# Altium footprint library PcbLib1.PcbLib: 3 footprints
Each footprint in its own frame and in the unit in brackets; x right, y up, seen from the top. Pads: shape width x height; smd on the part's side, far side on the other; paste and mask are expansions set on the pad; w line width, h text height; cw(c..) or ccw(c..) is an arc to the next point about the centre after c.
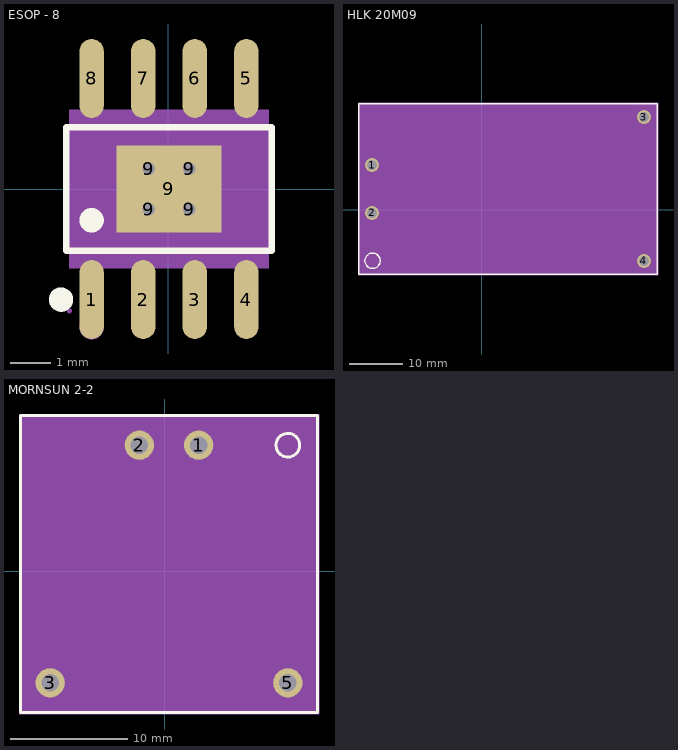
[diagram p0: the footprints below, top view; thin cyan lines are the x and y axes]

## ESOP - 8 [mm]
pads (13):
  oval 0.602x1.941 smd: 1(-1.891,-2.713) 2(-0.621,-2.713) 3(0.649,-2.713) 4(1.919,-2.713) 5(1.919,2.728) 6(0.649,2.728) 7(-0.621,2.728) 8(-1.891,2.728)
  round 0.6 hole 0.3: 9(-0.485,-0.492) 9(-0.485,0.508) 9(0.515,-0.492) 9(0.515,0.508)
  rect 2.595x2.15 smd: 9(0.014,0.008)
Top Overlay:
  circle w0.3: c-2.644,-2.713 r0.15
  circle w0.3: c-1.891,-0.761 r0.15
  lines w0.152: -2.512,-1.513 2.541,-1.513 2.541,1.529 -2.512,1.529 -2.512,-1.513
Mechanical 4:
  region: -2.436,-1.942 -2.436,1.958 2.464,1.958 2.464,-1.942
Mechanical 5:
  region: -1.283,-1.067 -1.283,1.083 1.312,1.083 1.312,-1.067
  pour cut-out: 1.704,2.368 1.704,1.948 2.134,1.948 2.134,2.368
  region: 1.704,3.008 1.704,2.358 2.134,2.358 2.134,3.008
  pour cut-out: 0.434,2.368 0.434,1.948 0.864,1.948 0.864,2.368
  region: 0.434,3.008 0.434,2.358 0.864,2.358 0.864,3.008
  pour cut-out: -0.836,2.368 -0.836,1.948 -0.406,1.948 -0.406,2.368
  region: -0.836,3.008 -0.836,2.358 -0.406,2.358 -0.406,3.008
  pour cut-out: -2.106,2.368 -2.106,1.948 -1.676,1.948 -1.676,2.368
  region: -2.106,3.008 -2.106,2.358 -1.676,2.358 -1.676,3.008
  pour cut-out: 1.704,-2.352 1.704,-1.932 2.134,-1.932 2.134,-2.352
  region: 1.704,-2.992 1.704,-2.342 2.134,-2.342 2.134,-2.992
  pour cut-out: 0.434,-2.352 0.434,-1.932 0.864,-1.932 0.864,-2.352
  region: 0.434,-2.992 0.434,-2.342 0.864,-2.342 0.864,-2.992
  pour cut-out: -0.836,-2.352 -0.836,-1.932 -0.406,-1.932 -0.406,-2.352
  region: -0.836,-2.992 -0.836,-2.342 -0.406,-2.342 -0.406,-2.992
  pour cut-out: -2.106,-2.352 -2.106,-1.932 -1.676,-1.932 -1.676,-2.352
  region: -2.106,-2.992 -2.106,-2.342 -1.676,-2.342 -1.676,-2.992
Mechanical 6:
  circle w0.06: c-2.436,-2.992 r0.03
Mechanical 15:
  circle w0.3: c-1.891,-3.392 r0.15

## HLK 20M09 [mm]
pads (4):
  round 2.6 hole 1.8: 1(-20.614,8.435) 2(-20.614,-0.565) 3(30.386,17.435) 4(30.386,-9.565)
Top Overlay:
  circle w0.254: c-20.514,-9.527 r1.437
  lines w0.254: -23.114,-12.065 32.886,-12.065 32.886,19.935 -23.114,19.935 -23.114,-12.065
Mechanical 4:
  region: -23.241,20.062 33.013,20.062 33.013,-12.192 -23.241,-12.192
Mechanical 5:
  region: -21.914,9.735 -19.314,9.735 -19.314,7.135 -21.914,7.135
  region: -21.914,0.735 -19.314,0.735 -19.314,-1.865 -21.914,-1.865
  region: 29.086,18.735 31.686,18.735 31.686,16.135 29.086,16.135
  region: 29.086,-8.265 31.686,-8.265 31.686,-10.865 29.086,-10.865

## MORNSUN 2-2 [mm]
pads (4):
  round 2.5 hole 1.5: 1(2.921,10.795) 2(-2.159,10.795) 3(-9.779,-9.525) 5(10.541,-9.525)
Top Overlay:
  circle w0.254: c10.541,10.795 r1.016
  lines w0.254: -12.319,-12.065 -12.319,13.335 13.081,13.335 13.081,-12.065 -12.319,-12.065
Mechanical 4:
  region: -12.446,13.462 13.208,13.462 13.208,-12.192 -12.446,-12.192
Mechanical 5:
  region: 9.291,-8.275 11.791,-8.275 11.791,-10.775 9.291,-10.775
  region: -11.029,-8.275 -8.529,-8.275 -8.529,-10.775 -11.029,-10.775
  region: -3.409,12.045 -0.909,12.045 -0.909,9.545 -3.409,9.545
  region: 1.671,12.045 4.171,12.045 4.171,9.545 1.671,9.545